# Altium footprint library crystal.PCBLIB: 66 footprints (part 5 of 5)
Each footprint in its own frame and in the unit in brackets; x right, y up, seen from the top. Pads: shape width x height; smd on the part's side, far side on the other; paste and mask are expansions set on the pad; w line width, h text height; cw(c..) or ccw(c..) is an arc to the next point about the centre after c.
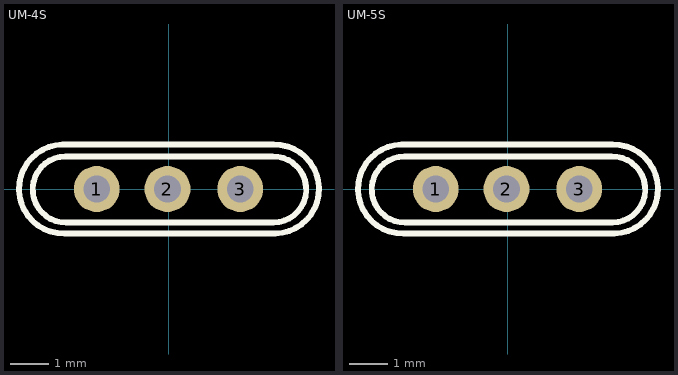
[diagram p4: the footprints below, top view; thin cyan lines are the x and y axes]

## UM-4S [mil]
pads (3):
  round 47.24 hole 27.56: 1(-73.82,0) 2(-1.06,0) 3(73.82,0)
Top Overlay:
  lines w6: -109.09,45.71 108.11,45.71 cw(c109.09,0) 110.08,-45.71 -107.13,-45.71 cw(c-108.11,0) -109.09,45.71 ; -106.14,33.58 107.13,33.58 cw(c107.62,-0.49) 108.11,-34.57 -105.16,-34.57 cw(c-105.65,-0.49) -106.14,33.58

## UM-5S [mil]
pads (3):
  round 47.24 hole 27.56: 1(-73.82,0) 2(-1.06,0) 3(73.82,0)
Top Overlay:
  lines w6: -109.09,45.71 108.11,45.71 cw(c109.09,0) 110.08,-45.71 -107.13,-45.71 cw(c-108.11,0) -109.09,45.71 ; -106.14,33.58 107.13,33.58 cw(c107.62,-0.49) 108.11,-34.57 -105.16,-34.57 cw(c-105.65,-0.49) -106.14,33.58